# EAGLE library part BREAKOUT (library Parts)
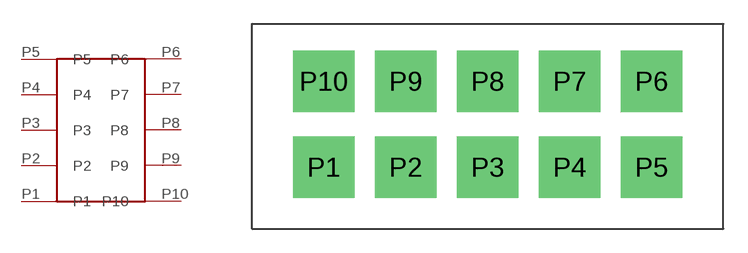
[diagram p2: symbol with the pads of 4"; footprint 4"]

Designator prefix -

## BREAKOUTBREAKOUT  [4"]
P1  P1
P2  P2
P3  P3
P4  P4
P5  P5
P6  P6
P7  P7
P8  P8
P9  P9
P10  P10

## Footprint 4" (pad centres in mm)
drill 0.8 pad 3.81 square: P1 0,0; P2 5.08,0; P3 10.16,0; P4 15.24,0; P5 20.32,0; P6 20.32,5.334; P7 15.24,5.334; P8 10.16,5.334; P9 5.08,5.334; P10 0,5.334